# Altium integrated library Inductor.IntLib: 1 symbol
Pins are listed as number, name and electrical type; pins without a type are passive.

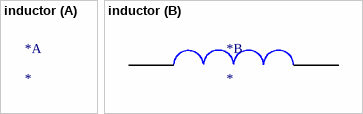
[diagram p0: symbol inductor]

## inductor
designator *
footprint IND_2300LL-271-V-RC
part B pins: 1, 2